# Altium schematic symbol library RK3568_train.SCHLIB: 159 symbols (part 1 of 3)
Pins are listed as number, name and electrical type; pins without a type are passive.

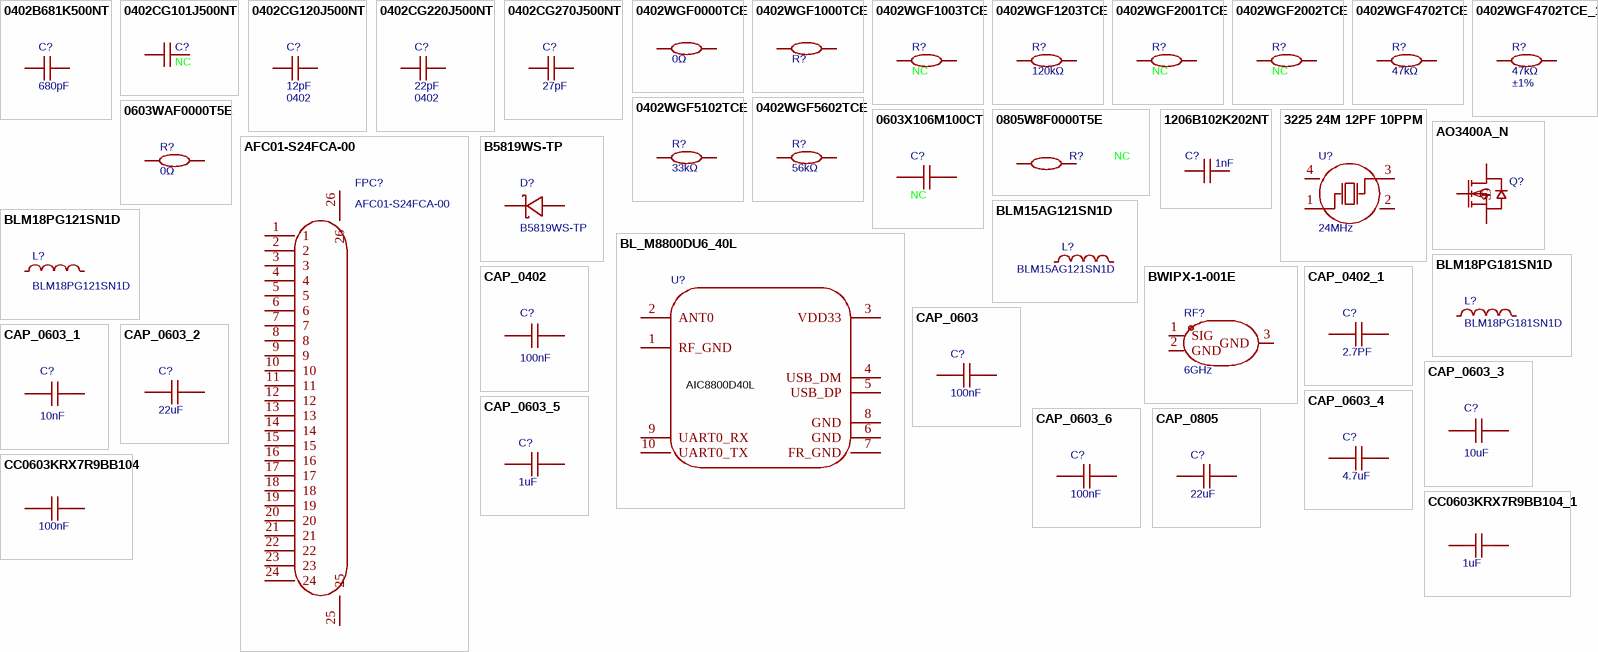
[diagram p0: symbols 0402B681K500NT to CC0603KRX7R9BB104_1]

## 0402B681K500NT
designator C?, comment 680pF
容值:680pF;精度:±10%;额定电压:50V;材质(温度系数):X7R;; Manufacturer: FH(风华); Device: 0402B681K500NT; AddInBom: yes; ModelId: 36a51122f27c49738f86b3bfa98863e0; ModelName: C0402_L1.0-W0.5-H0.5; ModelTransform: 39.37,19.685,0,0,0,0,0,0,0; Tolerance: ±10%; Voltage Rated: 50V; Temperature Coefficient: X7R; Symbol: 0402B681K500NT; LCSC Part Name: 680pF ±10% 50V; SupplierPart: C1541; ManufacturerPart: 0402B681K500NT; Supplier Footprint: 0402; JLCPCB Part Class: Extended Part; Datasheet: https://atta.szlcsc.com/upload/public/pdf/source/20170923/C1541_1506149263051988348.pdf; Supplier: LCSC; ConvertToPcb: yes; FootprintName: R0402; Value: 680pF
footprint R0402
pins: 1, 2

## 0402CG101J500NT
designator C?, comment NC
容值:100pF;精度:±5%;额定电压:50V;材质(温度系数):C0G;; Manufacturer: FH(风华); Device: 0402CG101J500NT; Add into BOM: no; ConvertToPcb: yes; ModelId: 36a51122f27c49738f86b3bfa98863e0; ModelName: C0402_L1.0-W0.5-H0.5; ModelTransform: 39.37,19.685,0,0,0,0,0,0,0; Tolerance: ±5%; Voltage Rated: 50V; Temperature Coefficient: C0G; Supplier Part: NC; Value: NC; Symbol: 0402CG101J500NT; LCSC Part Name: 100pF ±5% 50V; ManufacturerPart: 0402CG101J500NT; Supplier Footprint: 0402; JLCPCB Part Class: Basic Part; Datasheet: https://atta.szlcsc.com/upload/public/pdf/source/20170923/C1546_1506149265265988353.pdf; Supplier: LCSC; FootprintName: R0402
footprint R0402
pins: 1, 2

## 0402CG120J500NT
designator C?, comment 12pF  Supplier Footprint: 0402
容值:12pF;精度:±5%;额定电压:50V;材质(温度系数):C0G;; Manufacturer: FH(风华); Symbol: 0402CG220J500NT; Device: 0402CG120J500NT; AddInBom: yes; ModelId: 36a51122f27c49738f86b3bfa98863e0; ModelName: C0402_L1.0-W0.5-H0.5; ModelTransform: 39.37,19.685,0,0,0,0,0,0,0; Tolerance: ±5%; Voltage Rated: 50V; Temperature Coefficient: C0G; Datasheet: https://atta.szlcsc.com/upload/public/pdf/source/20200305/C486355_26A10D38EF8C2A5C37091D0039909270.pdf; LCSC Part Name: 12pF ±5% 50V; SupplierPart: C1547; ManufacturerPart: 0402CG120J500NT; JLCPCB Part Class: Basic Part; Supplier: LCSC; ConvertToPcb: yes; FootprintName: MYC0402; Value: 12pF
footprint MYC0402
pins: 1, 2

## 0402CG220J500NT
designator C?, comment 22pF  Supplier Footprint: 0402
容值:22pF;精度:±5%;额定电压:50V;材质(温度系数):C0G;; Manufacturer: FH(风华); Device: 0402CG220J500NT; AddInBom: yes; ModelId: 36a51122f27c49738f86b3bfa98863e0; ModelName: C0402_L1.0-W0.5-H0.5; ModelTransform: 39.37,19.685,0,0,0,0,0,0,0; Tolerance: ±5%; Voltage Rated: 50V; Temperature Coefficient: C0G; Symbol: 0402CG220J500NT; LCSC Part Name: 22pF ±5% 50V; SupplierPart: C1555; ManufacturerPart: 0402CG220J500NT; JLCPCB Part Class: Basic Part; Datasheet: https://atta.szlcsc.com/upload/public/pdf/source/20170923/C1555_1506149269156988362.pdf; Supplier: LCSC; ConvertToPcb: yes; FootprintName: R0402; Value: 22pF
footprint R0402
pins: 1, 2

## 0402CG270J500NT
designator C?, comment 27pF
容值:27pF;精度:±5%;额定电压:50V;材质(温度系数):C0G;; Manufacturer: FH(风华); Device: 0402CG270J500NT; Symbol: 0402CG270J500NTN; AddInBom: yes; ModelId: 36a51122f27c49738f86b3bfa98863e0; ModelName: C0402_L1.0-W0.5-H0.5; ModelTransform: 39.37,19.685,0,0,0,0,0,0,0; Tolerance: ±5%; Voltage Rated: 50V; Temperature Coefficient: C0G; LCSC Part Name: 27pF ±5% 50V; SupplierPart: C1557; ManufacturerPart: 0402CG270J500NT; Supplier Footprint: 0402; JLCPCB Part Class: Basic Part; Datasheet: https://atta.szlcsc.com/upload/public/pdf/source/20170923/C1557_1506149270123988364.pdf; Supplier: LCSC; ConvertToPcb: yes; FootprintName: R0402; Value: 27pF
footprint R0402
pins: 1, 2

## 0402WGF0000TCE
designator R?  value 0Ω  (hidden comment: 0402WGF0000TCE)
电阻类型:厚膜电阻;阻值:0Ω;精度:±1%;功率:62.5mW;; Manufacturer: UNI-ROYAL(厚声); Symbol: 电阻; AddInBom: yes; ModelId: 671aefced39d4c318694bba8bd8efd39; ModelName: R0402_L1.0-W0.5-H0.5; ModelTransform: 39.37,19.685,0,0,0,0,0,0.0005,0; Tolerance: ±1%; Power(Watts): 62.5mW; Temperature Coefficient: ±800ppm/℃; Overload Voltage (Max): 50V; Device: 0402WGF0000TCE; LCSC Part Name: 0Ω ±1% 62.5mW; SupplierPart: C17168; ManufacturerPart: 0402WGF0000TCE; Supplier Footprint: 0402; JLCPCB Part Class: Basic Part; Datasheet: https://atta.szlcsc.com/upload/public/pdf/source/20200306/C422600_1E6D84923E4A46A82E41ADD87F860B5C.pdf; Supplier: LCSC; ConvertToPcb: yes; FootprintName: r0402-nsk; Type: 厚膜电阻; Operating Temperature Range: -55℃~+155℃
footprint r0402-nsk
pins: 1, 2

## 0402WGF1000TCE
designator R?  (value not drawn)
Manufacturer: UNI-ROYAL(厚声); ConvertToPcb: yes; ModelId: 671aefced39d4c318694bba8bd8efd39; ModelName: R0402_L1.0-W0.5-H0.5; ModelTransform: 39.37,19.685,0,0,0,0,0,0.0005,0; LCSC Part Name: 100Ω(1000) ±1% 编带; Device: 0402WGF1000TCE; Symbol: 0402WGF1000TCE; AddInBom: yes; Supplier: LCSC; SupplierPart: C25076; Supplier Footprint: 0402; JLCPCB Part Class: Basic Part; Datasheet: https://atta.szlcsc.com/upload/public/pdf/source/20170920/C25076_1505901197574982707.pdf; ManufacturerPart: 0402WGF1000TCE; FootprintName: R0402
footprint R0402
pins: 1, 2

## 0402WGF1003TCE
designator R?, comment NC
电阻类型:厚膜电阻;阻值:100kΩ;精度:±1%;功率:62.5mW;温度系数:±100ppm/℃;最大工作电压:50V;工作温度范围:-55℃~+155℃;; Manufacturer: UNI-ROYAL(厚声); Device: 0402WGF1003TCE; Add into BOM: no; ConvertToPcb: yes; ModelId: 671aefced39d4c318694bba8bd8efd39; ModelName: R0402_L1.0-W0.5-H0.5; ModelTransform: 39.37,19.685,0,0,0,0,0,0.0005,0; Tolerance: ±1%; Power(Watts): 62.5mW; Overload Voltage (Max): 50V; Supplier Part: NC; Value: NC; Symbol: 0402WGF1003TCE; LCSC Part Name: 100kΩ ±1% 62.5mW; ManufacturerPart: 0402WGF1003TCE; Supplier Footprint: 0402; JLCPCB Part Class: Basic Part; Datasheet: https://atta.szlcsc.com/upload/public/pdf/source/20200306/C422600_1E6D84923E4A46A82E41ADD87F860B5C.pdf; Supplier: LCSC; FootprintName: R0402; Type: 厚膜电阻; Temperature Coefficient: ±100ppm/℃; Operating Temperature Range: -55℃~+155℃
footprint R0402
pins: 1, 2

## 0402WGF1203TCE
designator R?, comment 120kΩ
电阻类型:厚膜电阻;阻值:120kΩ;精度:±1%;功率:62.5mW;温度系数:±100ppm/℃;最大工作电压:50V;工作温度范围:-55℃~+155℃;; Manufacturer: UNI-ROYAL(厚声); Device: 0402WGF1203TCE; AddInBom: yes; ModelId: 671aefced39d4c318694bba8bd8efd39; ModelName: R0402_L1.0-W0.5-H0.5; ModelTransform: 39.37,19.685,0,0,0,0,0,0.0005,0; Tolerance: ±1%; Power(Watts): 62.5mW; Overload Voltage (Max): 50V; Symbol: 0402WGF1203TCE; LCSC Part Name: 120kΩ ±1% 62.5mW; SupplierPart: C25750; ManufacturerPart: 0402WGF1203TCE; Supplier Footprint: 0402; JLCPCB Part Class: Basic Part; Datasheet: https://atta.szlcsc.com/upload/public/pdf/source/20200306/C422600_1E6D84923E4A46A82E41ADD87F860B5C.pdf; Supplier: LCSC; ConvertToPcb: yes; FootprintName: R0402; Type: 厚膜电阻; Value: 120kΩ; Temperature Coefficient: ±100ppm/℃; Operating Temperature Range: -55℃~+155℃
footprint R0402
pins: 1, 2

## 0402WGF2001TCE
designator R?, comment NC
电阻类型:厚膜电阻;阻值:2kΩ;精度:±1%;功率:62.5mW;温度系数:±100ppm/℃;最大工作电压:50V;工作温度范围:-55℃~+155℃;; Manufacturer: UNI-ROYAL(厚声); Device: 0402WGF2001TCE; Add into BOM: no; ConvertToPcb: yes; ModelId: 671aefced39d4c318694bba8bd8efd39; ModelName: R0402_L1.0-W0.5-H0.5; ModelTransform: 39.37,19.685,0,0,0,0,0,0.0005,0; Tolerance: ±1%; Power(Watts): 62.5mW; Overload Voltage (Max): 50V; Supplier Part: NC; Value: NC; Symbol: 0402WGF2001TCE; LCSC Part Name: 2kΩ ±1% 62.5mW; ManufacturerPart: 0402WGF2001TCE; Supplier Footprint: 0402; JLCPCB Part Class: Basic Part; Datasheet: https://atta.szlcsc.com/upload/public/pdf/source/20200306/C422600_1E6D84923E4A46A82E41ADD87F860B5C.pdf; Supplier: LCSC; FootprintName: R0402; Type: 厚膜电阻; Temperature Coefficient: ±100ppm/℃; Operating Temperature Range: -55℃~+155℃
footprint R0402
pins: 1, 2

## 0402WGF2002TCE
designator R?, comment NC
电阻类型:厚膜电阻;阻值:20kΩ;精度:±1%;功率:62.5mW;温度系数:±100ppm/℃;最大工作电压:50V;工作温度范围:-55℃~+155℃;; Manufacturer: UNI-ROYAL(厚声); Device: 0402WGF2002TCE; Add into BOM: no; ConvertToPcb: yes; ModelId: 671aefced39d4c318694bba8bd8efd39; ModelName: R0402_L1.0-W0.5-H0.5; ModelTransform: 39.37,19.685,0,0,0,0,0,0.0005,0; Tolerance: ±1%; Power(Watts): 62.5mW; Overload Voltage (Max): 50V; Supplier Part: NC; Value: NC; Symbol: 0402WGF2002TCE; LCSC Part Name: 20kΩ ±1% 62.5mW; ManufacturerPart: 0402WGF2002TCE; Supplier Footprint: 0402; JLCPCB Part Class: Basic Part; Datasheet: https://atta.szlcsc.com/upload/public/pdf/source/20200306/C422600_1E6D84923E4A46A82E41ADD87F860B5C.pdf; Supplier: LCSC; FootprintName: R0402; Type: 厚膜电阻; Temperature Coefficient: ±100ppm/℃; Operating Temperature Range: -55℃~+155℃
footprint R0402
pins: 1, 2

## 0402WGF4702TCE
designator R?, comment 47kΩ
电阻类型:厚膜电阻;阻值:47kΩ;精度:±1%;功率:62.5mW;; Manufacturer: UNI-ROYAL(厚声); Symbol: 0402WGF1003TCE; Device: 0402WGF4702TCE; AddInBom: yes; ModelId: 671aefced39d4c318694bba8bd8efd39; ModelName: R0402_L1.0-W0.5-H0.5; ModelTransform: 39.37,19.685,0,0,0,0,0,0.0005,0; Tolerance: ±1%; Power(Watts): 62.5mW; Temperature Coefficient: ±100ppm/℃; Overload Voltage (Max): 50V; LCSC Part Name: 47kΩ ±1% 62.5mW; SupplierPart: C25792; ManufacturerPart: 0402WGF4702TCE; Supplier Footprint: 0402; JLCPCB Part Class: Basic Part; Datasheet: https://atta.szlcsc.com/upload/public/pdf/source/20200306/C422600_1E6D84923E4A46A82E41ADD87F860B5C.pdf; Supplier: LCSC; ConvertToPcb: yes; FootprintName: R0402; Type: 厚膜电阻; Value: 47kΩ; Operating Temperature Range: -55℃~+155℃
footprint R0402
pins: 1, 2

## 0402WGF4702TCE_1
designator R?, comment 47kΩ  Tolerance: ±1%
电阻类型:厚膜电阻;阻值:47kΩ;精度:±1%;功率:62.5mW;温度系数:±100ppm/℃;最大工作电压:50V;工作温度范围:-55℃~+155℃;; Manufacturer: UNI-ROYAL(厚声); Device: 0402WGF4702TCE; AddInBom: yes; ModelId: 671aefced39d4c318694bba8bd8efd39; ModelName: R0402_L1.0-W0.5-H0.5; ModelTransform: 39.37,19.685,0,0,0,0,0,0.0005,0; Power(Watts): 62.5mW; Overload Voltage (Max): 50V; Symbol: 0402WGF4702TCE; LCSC Part Name: 47kΩ ±1% 62.5mW; SupplierPart: C25792; ManufacturerPart: 0402WGF4702TCE; Supplier Footprint: 0402; JLCPCB Part Class: Basic Part; Datasheet: https://atta.szlcsc.com/upload/public/pdf/source/20200306/C422600_1E6D84923E4A46A82E41ADD87F860B5C.pdf; Supplier: LCSC; ConvertToPcb: yes; FootprintName: R0402; Type: 厚膜电阻; Value: 47kΩ; Temperature Coefficient: ±100ppm/℃; Operating Temperature Range: -55℃~+155℃
footprint R0402
pins: 1, 2

## 0402WGF5102TCE
designator R?, comment 33kΩ
电阻类型:厚膜电阻;阻值:51kΩ;精度:±1%;功率:62.5mW;; Manufacturer: UNI-ROYAL(厚声); Tolerance: ±1%; Power(Watts): 62.5mW; Temperature Coefficient: ±100ppm/℃; Overload Voltage (Max): 50V; Symbol: RTT025002FTH; Device: 0402WGF5102TCE; AddInBom: yes; ModelId: 671aefced39d4c318694bba8bd8efd39; ModelName: R0402_L1.0-W0.5-H0.5; ModelTransform: 39.37,19.685,0,0,0,0,0,0.0005,0; LCSC Part Name: 51kΩ ±1% 62.5mW; Datasheet: https://atta.szlcsc.com/upload/public/pdf/source/20200306/C422600_1E6D84923E4A46A82E41ADD87F860B5C.pdf; Type: 厚膜电阻; Value: 33kΩ; Operating Temperature Range: -55℃~+155℃; ManufacturerPart: 0402WGF5102TCE; Supplier Footprint: 0402; JLCPCB Part Class: Basic Part; Supplier: LCSC; ConvertToPcb: yes; FootprintName: R0402
footprint R0402
pins: 1, 2

## 0402WGF5602TCE
designator R?, comment 56kΩ
精度:±1%;功率:1/16W;温度系数:±100ppm/℃;阻值:56kΩ;最大工作电压:50V;工作温度范围:-55℃~+155℃;; Manufacturer: UNI-ROYAL(厚声); Device: 0402WGF5602TCE; AddInBom: yes; ModelId: 671aefced39d4c318694bba8bd8efd39; ModelName: R0402_L1.0-W0.5-H0.5; ModelTransform: 39.37,19.685,0,0,0,0,0,0.0005,0; Tolerance: ±1%; Power(Watts): 1/16W; Overload Voltage (Max): 50V; Symbol: 0402WGF5602TCE; LCSC Part Name: 56KΩ ±1%; SupplierPart: C25796; ManufacturerPart: 0402WGF5602TCE; Supplier Footprint: 0402; JLCPCB Part Class: Basic Part; Datasheet: https://atta.szlcsc.com/upload/public/pdf/source/20170920/C25796_1505901547482983369.pdf; Supplier: LCSC; ConvertToPcb: yes; FootprintName: R0402; Temperature Coefficient: ±100ppm/℃; Value: 56kΩ; Operating Temperature Range: -55℃~+155℃
footprint R0402
pins: 1, 2

## 0603WAF0000T5E
designator R?, comment 0Ω
电阻类型:厚膜电阻;阻值:0Ω;精度:±1%;功率:100mW;最大工作电压:75V;工作温度范围:-55℃~+155℃;; Manufacturer: UNI-ROYAL(厚声); Device: 0603WAF0000T5E; AddInBom: yes; ModelId: 6bd5cd867e9542ebae21caaf5d2d4c4d; ModelName: R0603; ModelTransform: 31.8897,63.7794,0,90,0,0,0,0,0; Tolerance: ±1%; Power(Watts): 100mW; Overload Voltage (Max): 75V; Symbol: 0603WAF0000T5E; LCSC Part Name: 0Ω ±1% 100mW; SupplierPart: C21189; ManufacturerPart: 0603WAF0000T5E; Supplier Footprint: 0603; JLCPCB Part Class: Basic Part; Datasheet: https://atta.szlcsc.com/upload/public/pdf/source/20200306/C422600_1E6D84923E4A46A82E41ADD87F860B5C.pdf; Supplier: LCSC; ConvertToPcb: yes; FootprintName: R0603; Type: 厚膜电阻; Value: 0Ω; Operating Temperature Range: -55℃~+155℃
footprint R0603
pins: 1, 2

## 0603X106M100CT
designator C?, comment NC
容值:10uF;精度:±20%;额定电压:10V;材质(温度系数):X5R;; Manufacturer: Walsin(华新科); Device: 0603X106M100CT; Add into BOM: no; Symbol: 0603X106M100; ConvertToPcb: yes; ModelId: ac125912035d415993ca9572d50418b1; ModelName: C0603_L1.6-W0.8-H0.8; ModelTransform: 62.992,31.496,0,0,0,0,0,0,0; Tolerance: ±20%; Voltage Rated: 10V; Temperature Coefficient: X5R; Supplier Part: NC; Value: NC; LCSC Part Name: 10uF ±20% 10V; ManufacturerPart: 0603X106M100CT; Supplier Footprint: 0603; JLCPCB Part Class: 扩展库; Datasheet: https://atta.szlcsc.com/upload/public/pdf/source/20161226/1482720147964.pdf; Supplier: LCSC; FootprintName: R0603
footprint R0603
pins: 1, 2

## 0805W8F0000T5E
designator R?, comment NC
电阻类型:厚膜电阻;阻值:0Ω;精度:±1%;功率:125mW;温度系数:±800ppm/℃;最大工作电压:150V;工作温度范围:-55℃~+155℃;; Manufacturer: UNI-ROYAL(厚声); Device: 0805W8F0000T5E; AddInBom: yes; ModelId: 37a81e68749a4138bd2dfa6897b24b85; ModelName: R0805_L2.0-W1.3-H0.6; ModelTransform: 78.74,51.181,0,0,0,0,0,-0.0005,0; Tolerance: ±1%; Power(Watts): 125mW; Overload Voltage (Max): 150V; Supplier Part: NC; Value: NC; Symbol: 0805W8F0000T5E; LCSC Part Name: 0Ω ±1% 125mW; ManufacturerPart: 0805W8F0000T5E; Supplier Footprint: 0805; JLCPCB Part Class: Basic Part; Datasheet: https://atta.szlcsc.com/upload/public/pdf/source/20200306/C422600_1E6D84923E4A46A82E41ADD87F860B5C.pdf; Supplier: LCSC; ConvertToPcb: yes; FootprintName: R0805; Type: 厚膜电阻; Temperature Coefficient: ±800ppm/℃; Operating Temperature Range: -55℃~+155℃
footprint R0805
pins: 1, 2

## 1206B102K202NT
designator C?, comment 1nF
容值:1nF;精度:±10%;额定电压:2kV;温度系数:X7R;; Manufacturer: FH(风华); Symbol: 1206B102K202NT; AddInBom: yes; ModelId: e4be705b945545a48e666415e3682bd8; ModelName: C1206_L3.2-W1.6-H1.3; ModelTransform: 125.984,62.992,0,0,0,0,0,0,0; Tolerance: ±10%; Voltage Rating: 2kV; Temperature Coefficient: X7R; Device: 1206B102K202NT; LCSC Part Name: 1nF ±10% 2kV; SupplierPart: C9196; ManufacturerPart: 1206B102K202NT; Supplier Footprint: 1206; JLCPCB Part Class: 基础库; Datasheet: https://atta.szlcsc.com/upload/public/pdf/source/20200305/C486355_26A10D38EF8C2A5C37091D0039909270.pdf; Supplier: LCSC; ConvertToPcb: yes; FootprintName: C1206; Value: 1nF
footprint C1206
pins: 1, 2

## 3225 24M 12PF 10PPM
designator U?, comment 24MHz
频率:24MHz;常温频差:±10ppm;外接负载电容:12pF;频率稳定度(全温):±30ppm;; Manufacturer: SST(索斯特); Symbol: 3225 24M 12PF 10PPM; AddInBom: yes; ModelId: 1840cb1b89674ca18acb69eedbab271b; ModelName: OSC-SMD_4P-L3.2-W2.5-H1.0; ModelTransform: 125.984,98.425,0,0,0,0,0,0,0; Normal temperature Frequency Tolerance: ±10ppm; External load capacitor: 12pF; Frequency Stability(Full temperature range): ±30ppm; Device: 3225 24M 12PF 10PPM; LCSC Part Name: 24MHz ±10ppm 12pF; SupplierPart: C5181479; ManufacturerPart: 3225 24M 12PF 10PPM; Supplier Footprint: SMD3225-4P; JLCPCB Part Class: 扩展库; Datasheet: https://atta.szlcsc.com/upload/public/pdf/source/20220927/6DE882D78314C64B49594C58A0BA2E52.pdf; Supplier: LCSC; ConvertToPcb: yes; FootprintName: CRYSTAL-SMD_4P-L3.2-W2.5-BL; Value: 24MHz; Operating Temperature: -20℃~+70℃
footprint CRYSTAL-SMD_4P-L3.2-W2.5-BL
pins: 1 OSC1, 2 GND, 3 OSC2, 4 GND

## AFC01-S24FCA-00
designator FPC?
锁定特性:翻盖式;触点类型:下接;触点数量:24P;间距:0.5mm;安装方式:卧贴;; Manufacturer: JS(钜硕电子); AddInBom: yes; ModelId: f4bf300ddc81445bb004d4c904d70ad0; ModelName: FPC-SMD_24P-P0.50_AFC01-S24FCA-00; ModelTransform: 645.668,240.157,0,0,0,0,0,-52.441,0; Locking Feature: 翻盖式; Number of Contacts: 24P; Pitch: 0.5mm; FFC, FCB Thickness: 0.3mm; Symbol: AFC01-S24FCA-00; Device: AFC01-S24FCA-00; LCSC Part Name: 间距:0.5mm P数:24P 翻盖式 下接; SupplierPart: C262669; ManufacturerPart: AFC01-S24FCA-00; Supplier Footprint: SMD,P=0.5mm,卧贴; JLCPCB Part Class: 扩展库; Datasheet: https://item.szlcsc.com/datasheet/AFC01-S24FCA-00/253928.html; Supplier: LCSC; ConvertToPcb: yes; FootprintName: FPC-SMD_24P-P0.50_AFC01-S24FCA-00; Contact Type: 下接; Mounting Type: 卧贴; Height Above Board: 2mm
footprint FPC-SMD_24P-P0.50_AFC01-S24FCA-00
pins: 1, 2, 3, 4, 5, 6, 7, 8, 9, 10, 11, 12, 13, 14, 15, 16, 17, 18, 19, 20, 21, 22, 23, 24, 25, 26

## AO3400A_N
designator Q?
类型:N沟道;漏源电压(Vdss):30V;连续漏极电流(Id):5.2A;功率(Pd):1W;导通电阻(RDS(on)@Vgs,Id):35mΩ@10V,5A;阈值电压(Vgs(th)@Id):1.5V@250μA;; Symbol: N_MOS; Device: AO3400A_N; AddInBom: yes; ModelId: c62791f0466c4ae2a892c056b845b0ca; ModelName: SOT-23-3P_L2.9-W1.3-H1.0-LS2.4-P0.95; ModelTransform: 98.425,114.173,0,180,0,0,0.0005,-0.0005,0; Supplier Footprint: SOT-23; ConvertToPcb: yes; FootprintName: SOT-23-3_L2.9-W1.3-P1.90-LS2.4-BR; SupplierPart: C700953
footprint SOT-23-3_L2.9-W1.3-P1.90-LS2.4-BR
pins: 1 G, 2 S, 3 D

## B5819WS-TP
designator D?
正向压降(Vf):600mV@1A;直流反向耐压(Vr):40V;平均整流电流(Io):1A;; Manufacturer: MCC(美微科); AddInBom: yes; ModelId: 7459fe65e23146c0a8d836e46a0add72; ModelName: SOD-323_L1.8-W1.3-LS2.5-RD; ModelTransform: 104.3305,51.181,0,0,0,0,0,0,0; Reverse Voltage (Vr): 40V; Average Rectified Current (Io): 1A; Reverse Leakage Current (Ir): 1mA@40V; Symbol: B5819WS-TP; Device: B5819WS-TP; LCSC Part Name: 电压:40V 电流:1A; SupplierPart: C78734; ManufacturerPart: B5819WS-TP; Supplier Footprint: SOD-323; JLCPCB Part Class: 扩展库; Datasheet: https://atta.szlcsc.com/upload/public/pdf/source/20190308/C78734_7BD7F562D63F05C7B4187010ADA330AA.pdf; Supplier: LCSC; ConvertToPcb: yes; FootprintName: SOD-323_L1.8-W1.3-LS2.5-RD; Forward Voltage (Vf@If): 600mV@1A
footprint SOD-323_L1.8-W1.3-LS2.5-RD
pins: 1 K, 2 A

## BL_M8800DU6_40L
designator U?
AIC8800D40L双频5G无线模块wifi6+BLE蓝牙配网IPC摄像头投屏图传; Device: BL_M8800DU6_40L; AddInBom: yes; ConvertToPcb: yes; SymbolName: BL_M8800DU6_40L; FootprintName: BL_M8800DU6_40L
footprint BL_M8800DU6_40L
pins: 1 RF_GND, 2 ANT0, 3 VDD33, 4 USB_DM, 5 USB_DP, 6 GND, 7 FR_GND, 8 GND, 9 UART0_RX, 10 UART0_TX
text: AIC8800D40L

## BLM15AG121SN1D
designator L?
标称阻抗@测试频率:120Ω@100MHz;误差:±25%;直流电阻(RDC):250mΩ;额定电流:500mA;电路数:1;; Manufacturer: muRata(村田); Symbol: CBM160808U121T; AddInBom: yes; ModelId: d8d36575a3234d4790bfa765c88664a7; ModelName: L0402_L1.0-W0.5-H0.5_BEAD; ModelTransform: 39.37,19.685,0,0,0,0,0,0.0005,0; Tolerance: ±25%; DC Resistance: 250mΩ; Current Rating: 500mA; Circuits: 1; Device: BLM15AG121SN1D; LCSC Part Name: 120Ω@100MHz ±25%; SupplierPart: C85812; ManufacturerPart: BLM15AG121SN1D; Supplier Footprint: 0402; JLCPCB Part Class: Extended Part; Datasheet: https://atta.szlcsc.com/upload/public/pdf/source/20180326/C85812_709B7ABD18A92BCC8FFBD7A231EEE264.pdf; Supplier: LCSC; ConvertToPcb: yes; FootprintName: L0402; Impedance @ Frequency: 120Ω@100MHz
footprint L0402
pins: 1, 2

## BLM18PG121SN1D
designator L?
标称阻抗@测试频率:120Ω@100MHz;误差:±25%;直流电阻(RDC):50mΩ;; Manufacturer: muRata(村田); Symbol: BLM18PG121SN1D_C14709; AddInBom: yes; ModelId: 2bc5ec593d464d6ba9807aec0b5673c2; ModelName: L0603_L1.6-W0.8-H0.5_BEAD; ModelTransform: 62.992,31.496,0,180,0,0,0.094,0.629,0; Tolerance: ±25%; DC Resistance: 50mΩ; Current Rating: 2A; Circuits: 1; Device: BLM18PG121SN1D; LCSC Part Name: 单路 0603磁珠 阻抗120Ω@100MHz; SupplierPart: C14709; ManufacturerPart: BLM18PG121SN1D; Supplier Footprint: 0603; JLCPCB Part Class: 基础库; Datasheet: https://atta.szlcsc.com/upload/public/pdf/source/20130704/1457706621422.pdf; Supplier: LCSC; ConvertToPcb: yes; FootprintName: L0603; Impedance @ Frequency: 120Ω@100MHz
footprint L0603
pins: 1, 2

## BLM18PG181SN1D
designator L?
标称阻抗@测试频率:180Ω@100MHz;误差:±25%;直流电阻(RDC):90mΩ;额定电流:1.5A;电路数:1;; Manufacturer: muRata(村田); AddInBom: yes; ModelId: 2bc5ec593d464d6ba9807aec0b5673c2; ModelName: L0603_L1.6-W0.8-H0.5_BEAD; ModelTransform: 62.992,31.496,0,180,0,0,0.094,0.629,0; Tolerance: ±25%; DC Resistance: 90mΩ; Current Rating: 1.5A; Circuits: 1; Device: BLM18PG181SN1D; Symbol: BLM18PG181SN1D; LCSC Part Name: 180Ω@100MHz ±25%; SupplierPart: C82850; ManufacturerPart: BLM18PG181SN1D; Supplier Footprint: 0603; JLCPCB Part Class: Extended Part; Datasheet: https://atta.szlcsc.com/upload/public/pdf/source/20180326/C82850_BC876320DC99E3923AFD377E2F9C4AED.pdf; Supplier: LCSC; ConvertToPcb: yes; FootprintName: L0603; Impedance @ Frequency: 180Ω@100MHz
footprint L0603
pins: 1, 2

## BWIPX-1-001E
designator RF?, comment 6GHz
连接器类型:板端;接口类型:内针;端口数量:1;接口直径:-;接口长度/高度:-;频率:6GHz;射频系列:IPEX;阻抗:50Ω;样式:-;工作温度:-;; Manufacturer: BAT WIRELESS(蝙蝠无线); Symbol: BWIPX-1-001E; AddInBom: yes; ModelId: e9910d1cc3f644ef905f39c3184653d7; ModelName: IPEX-SMD_BWIPX-1-001E; ModelTransform: 122.047,118.11,0,180,0,0,29.921,0,0; Connector Type: 板端; Interface: 内针; Number of Ports: 1; RF Series: IPEX; Impedance: 50Ω; Device: BWIPX-1-001E; LCSC Part Name: IPEX 内针; SupplierPart: C496552; ManufacturerPart: BWIPX-1-001E; Supplier Footprint: SMD; JLCPCB Part Class: 扩展库; Datasheet: https://item.szlcsc.com/datasheet/BWIPX-1-001E/508501.html; Supplier: LCSC; ConvertToPcb: yes; FootprintName: IPEX-SMD_BWIPX-1-001E; Interface Diameter: -; Interface Length/Height: -; Value: 6GHz; Style: -; Operating Temperature Range: -
footprint IPEX-SMD_BWIPX-1-001E
pins: 1 SIG, 2 GND, 3 GND

## CAP_0402
designator C?, comment 100nF
Device: CAP_0402; Symbol: CapAcitance; ConvertToPcb: yes; ModelId: 36a51122f27c49738f86b3bfa98863e0; ModelName: C0402_L1.0-W0.5-H0.5; ModelTransform: 39.37,19.685,0,0,0,0,0,0,0; AddInBom: yes; Supplier Footprint: 0402; FootprintName: MYC0402; Value: 100nF
footprint MYC0402
pins: 1, 2

## CAP_0402_1
designator C?, comment 2.7PF
Symbol: Capacitance; Device: CAP_0402; ConvertToPcb: yes; ModelId: 36a51122f27c49738f86b3bfa98863e0; ModelName: C0402_L1.0-W0.5-H0.5; ModelTransform: 39.37,19.685,0,0,0,0,0,0,0; Value: 2.7PF; AddInBom: yes; Supplier Footprint: 0402; FootprintName: MYC0402
footprint MYC0402
pins: 1, 2

## CAP_0603
designator C?, comment 100nF
Device: CAP_0603; ConvertToPcb: yes; SymbolName: Capacitance; ModelId: ac125912035d415993ca9572d50418b1; ModelName: C0603_L1.6-W0.8-H0.8; ModelTransform: 62.992,31.496,0,0,0,0,0,0,0; AddInBom: yes; Supplier Footprint: 0603; FootprintName: C0603; Value: 100nF
footprint C0603
pins: 1, 2

## CAP_0603_1
designator C?, comment 10nF
Symbol: CapAcitance; Device: CAP_0603; ConvertToPcb: yes; ModelId: ac125912035d415993ca9572d50418b1; ModelName: C0603_L1.6-W0.8-H0.8; ModelTransform: 62.992,31.496,0,0,0,0,0,0,0; Value: 10nF; AddInBom: yes; Supplier Footprint: 0603; FootprintName: C0603
footprint C0603
pins: 1, 2

## CAP_0603_2
designator C?, comment 22uF
Symbol: Capacitance; Device: CAP_0603; ConvertToPcb: yes; ModelId: ac125912035d415993ca9572d50418b1聨0819f05c4eef4c71ace90d822a990e87; ModelName: C0603_L1.6-W0.8-H0.8; ModelTransform: 62.992,31.496,0,0,0,0,0,0,0; Value: 22uF; AddInBom: yes; Supplier Footprint: 0603; FootprintName: C0603
footprint C0603
pins: 1, 2

## CAP_0603_3
designator C?, comment 10uF
Symbol: Capacitance; Device: CAP_0603; ConvertToPcb: yes; ModelId: ac125912035d415993ca9572d50418b1聨0819f05c4eef4c71ace90d822a990e87; ModelName: C0603_L1.6-W0.8-H0.8; ModelTransform: 62.992,31.496,0,0,0,0,0,0,0; Value: 10uF; AddInBom: yes; Supplier Footprint: 0603; FootprintName: C0603
footprint C0603
pins: 1, 2

## CAP_0603_4
designator C?, comment 4.7uF
Device: CAP_0603; ConvertToPcb: yes; SymbolName: Capacitance; ModelId: ac125912035d415993ca9572d50418b1; ModelName: C0603_L1.6-W0.8-H0.8; ModelTransform: 62.992,31.496,0,0,0,0,0,0,0; Value: 4.7uF; AddInBom: yes; Supplier Footprint: 0603; FootprintName: C0603
footprint C0603
pins: 1, 2

## CAP_0603_5
designator C?, comment 1uF
Device: CAP_0603; ConvertToPcb: yes; SymbolName: Capacitance; ModelId: ac125912035d415993ca9572d50418b1; ModelName: C0603_L1.6-W0.8-H0.8; ModelTransform: 62.992,31.496,0,0,0,0,0,0,0; Value: 1uF; AddInBom: yes; Supplier Footprint: 0603; FootprintName: C0603
footprint C0603
pins: 1, 2

## CAP_0603_6
designator C?, comment 100nF
Symbol: Capacitance; Device: CAP_0603; Value: 10uF; ConvertToPcb: yes; ModelId: ac125912035d415993ca9572d50418b1聨0819f05c4eef4c71ace90d822a990e87; ModelName: C0603_L1.6-W0.8-H0.8; ModelTransform: 62.992,31.496,0,0,0,0,0,0,0; AddInBom: yes; Supplier Footprint: 0603; FootprintName: C0603
footprint C0603
pins: 1, 2

## CAP_0805
designator C?, comment 22uF
Symbol: Capacitance; Device: CAP_0805; ConvertToPcb: yes; ModelId: 1ba041120af144c991958decab20d241聨0819f05c4eef4c71ace90d822a990e87; ModelName: C0805_L2.0-W1.3-H1.3; ModelTransform: 78.74,51.181,0,0,0,0,0,0.0005,0; Value: 22uF; AddInBom: yes; Supplier Footprint: 0805; FootprintName: C0805
footprint C0805
pins: 1, 2

## CC0603KRX7R9BB104
designator C?  value 100nF  (hidden comment: CC0603KRX7R9BB104)
容值:100nF;精度:±10%;额定电压:50V;材质(温度系数):X7R;; Manufacturer: YAGEO(国巨); Symbol: CapAcitance; AddInBom: yes; ModelId: ac125912035d415993ca9572d50418b1; ModelName: C0603_L1.6-W0.8-H0.8; ModelTransform: 62.992,31.496,0,0,0,0,0,0,0; Tolerance: ±10%; Voltage Rated: 50V; Temperature Coefficient: X7R; Device: CC0603KRX7R9BB104; LCSC Part Name: 100nF ±10% 50V; SupplierPart: C14663; ManufacturerPart: CC0603KRX7R9BB104; Supplier Footprint: 0603; JLCPCB Part Class: Basic Part; Datasheet: https://atta.szlcsc.com/upload/public/pdf/source/20180910/C282072_33301C7F631E79921B82A8DAC6BCC5B3.pdf; Supplier: LCSC; ConvertToPcb: yes; FootprintName: MYC0402
footprint MYC0402
pins: 1, 2

## CC0603KRX7R9BB104_1
designator C?, comment value 1uF  (hidden comment: CC0603KRX7R9BB104)
容值:100nF;精度:±10%;额定电压:50V;材质(温度系数):X7R;; Manufacturer: YAGEO(国巨); Symbol: CapAcitance; AddInBom: yes; ModelId: ac125912035d415993ca9572d50418b1; ModelName: C0603_L1.6-W0.8-H0.8; ModelTransform: 62.992,31.496,0,0,0,0,0,0,0; Tolerance: ±10%; Voltage Rated: 50V; Temperature Coefficient: X7R; Device: CC0603KRX7R9BB104; LCSC Part Name: 100nF ±10% 50V; ManufacturerPart: CC0603KRX7R9BB104; Supplier Footprint: 0603; JLCPCB Part Class: Basic Part; Datasheet: https://atta.szlcsc.com/upload/public/pdf/source/20180910/C282072_33301C7F631E79921B82A8DAC6BCC5B3.pdf; Supplier: LCSC; ConvertToPcb: yes; FootprintName: MYC0402
footprint MYC0402
pins: 1, 2

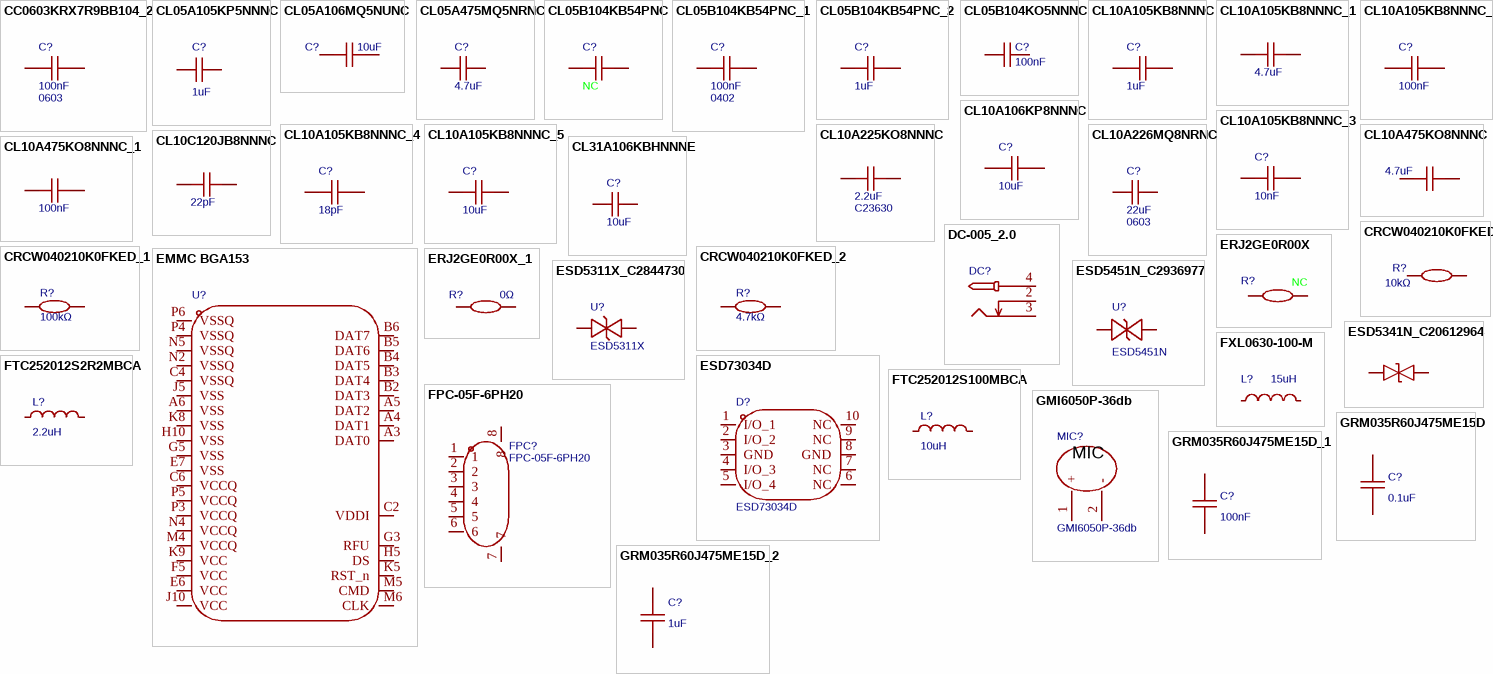
[diagram p1: symbols CC0603KRX7R9BB104_2 to GRM035R60J475ME15D_2]

## CC0603KRX7R9BB104_2
designator C?, comment 100nF  Supplier Footprint: 0603
容值:100nF;精度:±10%;额定电压:50V;材质(温度系数):X7R;; Manufacturer: YAGEO(国巨); Symbol: CC0603KRX7R9BB104; AddInBom: yes; ModelId: ac125912035d415993ca9572d50418b1; ModelName: C0603_L1.6-W0.8-H0.8; ModelTransform: 62.992,31.496,0,0,0,0,0,0,0; Tolerance: ±10%; Voltage Rated: 50V; Temperature Coefficient: X7R; Supplier Part: C14663; Device: CC0603KRX7R9BB104; LCSC Part Name: 100nF ±10% 50V; ManufacturerPart: CC0603KRX7R9BB104; JLCPCB Part Class: Basic Part; Datasheet: https://atta.szlcsc.com/upload/public/pdf/source/20180910/C282072_33301C7F631E79921B82A8DAC6BCC5B3.pdf; Supplier: LCSC; ConvertToPcb: yes; FootprintName: C0603; Value: 100nF
footprint C0603
pins: 1, 2

## CL05A105KP5NNNC
designator C?, comment 1uF
容值:1uF;精度:±10%;额定电压:10V;材质(温度系数):X5R;; Manufacturer: SAMSUNG(三星); Device: CL05A105KP5NNNC; AddInBom: yes; ModelId: 36a51122f27c49738f86b3bfa98863e0; ModelName: C0402_L1.0-W0.5-H0.5; ModelTransform: 39.37,19.685,0,0,0,0,0,0,0; Tolerance: ±10%; Voltage Rated: 10V; Temperature Coefficient: X5R; Symbol: CL05A105KP5NNNC; LCSC Part Name: 1uF ±10% 10V; SupplierPart: C14445; ManufacturerPart: CL05A105KP5NNNC; Supplier Footprint: 0402; JLCPCB Part Class: 扩展库; Datasheet: https://atta.szlcsc.com/upload/public/pdf/source/20160103/1457707670698.pdf; Supplier: LCSC; ConvertToPcb: yes; FootprintName: MYC0402; Value: 1uF
footprint MYC0402
pins: 1, 2

## CL05A106MQ5NUNC
designator C?, comment 10uF
容值:10uF;精度:±20%;额定电压:6.3V;材质(温度系数):X5R;; Manufacturer: SAMSUNG(三星); Symbol: 0603X106M100; Device: CL05A106MQ5NUNC; AddInBom: yes; ModelId: 36a51122f27c49738f86b3bfa98863e0; ModelName: C0402_L1.0-W0.5-H0.5; ModelTransform: 39.37,19.685,0,0,0,0,0,0,0; Tolerance: ±20%; Voltage Rated: 6.3V; Temperature Coefficient: X5R; JLCPCB Part Class: Basic Part; LCSC Part Name: 10uF ±20% 6.3V; SupplierPart: C15525; ManufacturerPart: CL05A106MQ5NUNC; Supplier Footprint: 0402; Datasheet: https://atta.szlcsc.com/upload/public/pdf/source/20220823/2B02EE04F8F211D38A52DCB16EB6BEBA.pdf; Supplier: LCSC; ConvertToPcb: yes; FootprintName: MYC0402; Value: 10uF
footprint MYC0402
pins: 1, 2

## CL05A475MQ5NRNC
designator C?, comment 4.7uF
容值:4.7uF;精度:±20%;额定电压:6.3V;材质(温度系数):X5R;; Manufacturer: SAMSUNG(三星); Symbol: CL10A475KO8NNNC; Device: CL05A475MQ5NRNC; AddInBom: yes; ModelId: 36a51122f27c49738f86b3bfa98863e0; ModelName: C0402_L1.0-W0.5-H0.5; ModelTransform: 39.37,19.685,0,0,0,0,0,0,0; Tolerance: ±20%; Voltage Rated: 6.3V; Temperature Coefficient: X5R; LCSC Part Name: 4.7uF ±20% 6.3V; SupplierPart: C307423; ManufacturerPart: CL05A475MQ5NRNC; Supplier Footprint: 0402; JLCPCB Part Class: Extended Part; Datasheet: https://atta.szlcsc.com/upload/public/pdf/source/20181010/C307423_0E0C4E35F3A09F81C2E5C84E00499E42.pdf; Supplier: LCSC; ConvertToPcb: yes; FootprintName: MYC0402; Value: 4.7uF
footprint MYC0402
pins: 1, 2

## CL05B104KB54PNC
designator C?, comment NC
容值:100nF;精度:±10%;额定电压:50V;材质(温度系数):X7R;; Manufacturer: SAMSUNG(三星); Symbol: CL05B104KB54PNC; Add into BOM: no; ConvertToPcb: yes; ModelId: 36a51122f27c49738f86b3bfa98863e0; ModelName: C0402_L1.0-W0.5-H0.5; ModelTransform: 39.37,19.685,0,0,0,0,0,0,0; Tolerance: ±10%; Voltage Rated: 50V; Temperature Coefficient: X7R; Supplier Part: NC; Value: NC; Device: CL05B104KB54PNC; LCSC Part Name: 100nF ±10% 50V; ManufacturerPart: CL05B104KB54PNC; Supplier Footprint: 0402; JLCPCB Part Class: Basic Part; Datasheet: https://atta.szlcsc.com/upload/public/pdf/source/20181009/C307331_222F7C870FD3EA5F46F538B483443886.pdf; Supplier: LCSC; FootprintName: R0402
footprint R0402
pins: 1, 2

## CL05B104KB54PNC_1
designator C?, comment 100nF  Supplier Footprint: 0402
容值:100nF;精度:±10%;额定电压:50V;材质(温度系数):X7R;; Manufacturer: SAMSUNG(三星); Symbol: CL05B104KB54PNC; AddInBom: yes; ModelId: 36a51122f27c49738f86b3bfa98863e0; ModelName: C0402_L1.0-W0.5-H0.5; ModelTransform: 39.37,19.685,0,0,0,0,0,0,0; Tolerance: ±10%; Voltage Rated: 50V; Temperature Coefficient: X7R; Device: CL05B104KB54PNC; LCSC Part Name: 100nF ±10% 50V; SupplierPart: C307331; ManufacturerPart: CL05B104KB54PNC; JLCPCB Part Class: Basic Part; Datasheet: https://atta.szlcsc.com/upload/public/pdf/source/20181009/C307331_222F7C870FD3EA5F46F538B483443886.pdf; Supplier: LCSC; ConvertToPcb: yes; FootprintName: MYC0402; Value: 100nF
footprint MYC0402
pins: 1, 2

## CL05B104KB54PNC_2
designator C?, comment value 1uF  (hidden comment: CL05B104KB54PNC)
容值:100nF;精度:±10%;额定电压:50V;材质(温度系数):X7R;; Manufacturer: SAMSUNG(三星); Symbol: CapAcitance; 3D Model: ac125912035d415993ca9572d50418b1; AddInBom: yes; ModelName: C0402_L1.0-W0.5-H0.5; ModelTransform: 39.37,19.685,0,0,0,0,0,0,0; Tolerance: ±10%; Voltage Rated: 50V; Temperature Coefficient: X7R; Device: CL05B104KB54PNC; LCSC Part Name: 100nF ±10% 50V; ManufacturerPart: CL05B104KB54PNC; Supplier Footprint: 0402; JLCPCB Part Class: Basic Part; Datasheet: https://atta.szlcsc.com/upload/public/pdf/source/20181009/C307331_222F7C870FD3EA5F46F538B483443886.pdf; Supplier: LCSC; ConvertToPcb: yes; FootprintName: MYC0402
footprint MYC0402
pins: 1, 2

## CL05B104KO5NNNC
designator C?, comment 100nF
容值:100nF;精度:±10%;额定电压:16V;材质(温度系数):X7R;; Manufacturer: SAMSUNG(三星); Device: CL05B104KO5NNNC; AddInBom: yes; ModelId: 36a51122f27c49738f86b3bfa98863e0; ModelName: C0402_L1.0-W0.5-H0.5; ModelTransform: 39.37,19.685,0,0,0,0,0,0,0; Tolerance: ±10%; Voltage Rated: 16V; Temperature Coefficient: X7R; Symbol: CL05B104KO5NNNC; LCSC Part Name: 100nF ±10% 16V; SupplierPart: C1525; ManufacturerPart: CL05B104KO5NNNC; Supplier Footprint: 0402; JLCPCB Part Class: 基础库; Datasheet: https://atta.szlcsc.com/upload/public/pdf/source/20160103/1457707674891.pdf; Supplier: LCSC; ConvertToPcb: yes; FootprintName: MYC0402; Value: 100nF
footprint MYC0402
pins: 1, 2

## CL10A105KB8NNNC
designator C?  value 1uF  (hidden comment: CL10A105KB8NNNC)
容值:1uF;精度:±10%;额定电压:50V;材质(温度系数):X5R;; Manufacturer: SAMSUNG(三星); Symbol: CapAcitance; AddInBom: yes; ModelId: ac125912035d415993ca9572d50418b1; ModelName: C0603_L1.6-W0.8-H0.8; ModelTransform: 62.992,31.496,0,0,0,0,0,0,0; Tolerance: ±10%; Voltage Rated: 50V; Temperature Coefficient: X5R; Device: CL10A105KB8NNNC; LCSC Part Name: 1uF ±10% 50V; SupplierPart: C15849; ManufacturerPart: CL10A105KB8NNNC; Supplier Footprint: 0603; JLCPCB Part Class: Basic Part; Datasheet: https://atta.szlcsc.com/upload/public/pdf/source/20160103/1457707679084.pdf; Supplier: LCSC; ConvertToPcb: yes; FootprintName: MYC0402
footprint MYC0402
pins: 1, 2

## CL10A105KB8NNNC_1
designator C?, comment value 4.7uF  (hidden comment: CL10A105KB8NNNC)
容值:1uF;精度:±10%;额定电压:50V;材质(温度系数):X5R;; Manufacturer: SAMSUNG(三星); Symbol: CapAcitance; 3D Model: 36a51122f27c49738f86b3bfa98863e0; AddInBom: yes; ModelName: C0603_L1.6-W0.8-H0.8; ModelTransform: 62.992,31.496,0,0,0,0,0,0,0; Tolerance: ±10%; Voltage Rated: 50V; Temperature Coefficient: X5R; Device: CL10A105KB8NNNC; LCSC Part Name: 1uF ±10% 50V; ManufacturerPart: CL10A105KB8NNNC; Supplier Footprint: 0603; JLCPCB Part Class: Basic Part; Datasheet: https://atta.szlcsc.com/upload/public/pdf/source/20160103/1457707679084.pdf; Supplier: LCSC; ConvertToPcb: yes; FootprintName: MYC0402
footprint MYC0402
pins: 1, 2

## CL10A105KB8NNNC_2
designator C?, comment value 100nF  (hidden comment: CL10A105KB8NNNC)
容值:1uF;精度:±10%;额定电压:50V;材质(温度系数):X5R;; Manufacturer: SAMSUNG(三星); Symbol: CapAcitance; AddInBom: yes; ModelId: ac125912035d415993ca9572d50418b1; ModelName: C0603_L1.6-W0.8-H0.8; ModelTransform: 62.992,31.496,0,0,0,0,0,0,0; Tolerance: ±10%; Voltage Rated: 50V; Temperature Coefficient: X5R; Device: CL10A105KB8NNNC; LCSC Part Name: 1uF ±10% 50V; ManufacturerPart: CL10A105KB8NNNC; Supplier Footprint: 0603; JLCPCB Part Class: Basic Part; Datasheet: https://atta.szlcsc.com/upload/public/pdf/source/20160103/1457707679084.pdf; Supplier: LCSC; ConvertToPcb: yes; FootprintName: MYC0402
footprint MYC0402
pins: 1, 2

## CL10A105KB8NNNC_3
designator C?, comment value 10nF  (hidden comment: CL10A105KB8NNNC)
容值:1uF;精度:±10%;额定电压:50V;材质(温度系数):X5R;; Manufacturer: SAMSUNG(三星); Symbol: CapAcitance; AddInBom: yes; ModelId: ac125912035d415993ca9572d50418b1; ModelName: C0603_L1.6-W0.8-H0.8; ModelTransform: 62.992,31.496,0,0,0,0,0,0,0; Tolerance: ±10%; Voltage Rated: 50V; Temperature Coefficient: X5R; Device: CL10A105KB8NNNC; LCSC Part Name: 1uF ±10% 50V; ManufacturerPart: CL10A105KB8NNNC; Supplier Footprint: 0603; JLCPCB Part Class: Basic Part; Datasheet: https://atta.szlcsc.com/upload/public/pdf/source/20160103/1457707679084.pdf; Supplier: LCSC; ConvertToPcb: yes; FootprintName: MYC0402
footprint MYC0402
pins: 1, 2

## CL10A105KB8NNNC_4
designator C?, comment value 18pF  (hidden comment: CL10A105KB8NNNC)
容值:1uF;精度:±10%;额定电压:50V;材质(温度系数):X5R;; Manufacturer: SAMSUNG(三星); Symbol: CapAcitance; AddInBom: yes; ModelId: ac125912035d415993ca9572d50418b1; ModelName: C0603_L1.6-W0.8-H0.8; ModelTransform: 62.992,31.496,0,0,0,0,0,0,0; Tolerance: ±10%; Voltage Rated: 50V; Temperature Coefficient: X5R; Device: CL10A105KB8NNNC; LCSC Part Name: 1uF ±10% 50V; ManufacturerPart: CL10A105KB8NNNC; Supplier Footprint: 0603; JLCPCB Part Class: Basic Part; Datasheet: https://atta.szlcsc.com/upload/public/pdf/source/20160103/1457707679084.pdf; Supplier: LCSC; ConvertToPcb: yes; FootprintName: MYC0402
footprint MYC0402
pins: 1, 2

## CL10A105KB8NNNC_5
designator C?, comment value 10uF  (hidden comment: CL10A105KB8NNNC)
容值:1uF;精度:±10%;额定电压:50V;材质(温度系数):X5R;; Manufacturer: SAMSUNG(三星); Symbol: CapAcitance; AddInBom: yes; ModelId: ac125912035d415993ca9572d50418b1; ModelName: C0603_L1.6-W0.8-H0.8; ModelTransform: 62.992,31.496,0,0,0,0,0,0,0; Tolerance: ±10%; Voltage Rated: 50V; Temperature Coefficient: X5R; Device: CL10A105KB8NNNC; LCSC Part Name: 1uF ±10% 50V; ManufacturerPart: CL10A105KB8NNNC; Supplier Footprint: 0603; JLCPCB Part Class: Basic Part; Datasheet: https://atta.szlcsc.com/upload/public/pdf/source/20160103/1457707679084.pdf; Supplier: LCSC; ConvertToPcb: yes; FootprintName: MYC0402
footprint MYC0402
pins: 1, 2

## CL10A106KP8NNNC
designator C?, comment 10uF
容值:10uF;精度:±10%;额定电压:10V;材质(温度系数):X5R;; Manufacturer: SAMSUNG(三星); Symbol: 0603X106M100; Device: CL10A106KP8NNNC; AddInBom: yes; ModelId: ac125912035d415993ca9572d50418b1; ModelName: C0603_L1.6-W0.8-H0.8; ModelTransform: 62.992,31.496,0,0,0,0,0,0,0; Tolerance: ±10%; Voltage Rated: 10V; Temperature Coefficient: X5R; LCSC Part Name: 10uF ±10% 10V; SupplierPart: C19702; ManufacturerPart: CL10A106KP8NNNC; Supplier Footprint: 0603; JLCPCB Part Class: Basic Part; Datasheet: https://atta.szlcsc.com/upload/public/pdf/source/20160103/1457707703378.pdf; Supplier: LCSC; ConvertToPcb: yes; FootprintName: C0603; Value: 10uF
footprint C0603
pins: 1, 2

## CL10A225KO8NNNC
designator C?  value 2.2uF  Supplier Part: C23630  (hidden comment: CL10A225KO8NNNC)
容值:2.2uF;精度:±10%;额定电压:16V;材质(温度系数):X5R;; Manufacturer: SAMSUNG(三星); Symbol: CapAcitance; AddInBom: yes; ModelId: ac125912035d415993ca9572d50418b1; ModelName: C0603_L1.6-W0.8-H0.8; ModelTransform: 62.992,31.496,0,0,0,0,0,0,0; Tolerance: ±10%; Voltage Rated: 16V; Temperature Coefficient: X5R; Device: CL10A225KO8NNNC; LCSC Part Name: 2.2uF ±10% 16V; ManufacturerPart: CL10A225KO8NNNC; Supplier Footprint: 0603; JLCPCB Part Class: Basic Part; Datasheet: https://atta.szlcsc.com/upload/public/pdf/source/20160103/1457707709512.pdf; Supplier: LCSC; ConvertToPcb: yes; FootprintName: c0402-nsk
footprint c0402-nsk
pins: 1, 2

## CL10A226MQ8NRNC
designator C?, comment 22uF  Supplier Footprint: 0603
容值:22uF;精度:±20%;额定电压:6.3V;材质(温度系数):X5R;; Manufacturer: SAMSUNG(三星); Symbol: GRT188R61A226ME13D; Device: CL10A226MQ8NRNC; Add into BOM: yes; ModelId: ac125912035d415993ca9572d50418b1; ModelName: C0603_L1.6-W0.8-H0.8; ModelTransform: 62.992,31.496,0,0,0,0,0,0,0; Tolerance: ±20%; Voltage Rated: 6.3V; Temperature Coefficient: X5R; LCSC Part Name: 22uF ±20% 6.3V; SupplierPart: C59461; ManufacturerPart: CL10A226MQ8NRNC; JLCPCB Part Class: Basic Part; Datasheet: https://atta.szlcsc.com/upload/public/pdf/source/20160218/1457707763339.pdf; Supplier: LCSC; ConvertToPcb: yes; FootprintName: C0603; Value: 22uF
footprint C0603
pins: 1, 2

## CL10A475KO8NNNC
designator C?, comment 4.7uF
容值:4.7uF;精度:±10%;额定电压:16V;材质(温度系数):X5R;; Manufacturer: SAMSUNG(三星); Symbol: CapAcitance; Device: CL10A475KO8NNNC; AddInBom: yes; ModelId: ac125912035d415993ca9572d50418b1; ModelName: C0603_L1.6-W0.8-H0.8; ModelTransform: 62.992,31.496,0,0,0,0,0,0,0; Tolerance: ±10%; Voltage Rated: 16V; Temperature Coefficient: X5R; Value: 4.7uF; LCSC Part Name: 4.7uF ±10% 16V; SupplierPart: C19666; ManufacturerPart: CL10A475KO8NNNC; Supplier Footprint: 0603; JLCPCB Part Class: Basic Part; Datasheet: https://atta.szlcsc.com/upload/public/pdf/source/20160103/1457707703134.pdf; Supplier: LCSC; ConvertToPcb: yes; FootprintName: c0402-nsk
footprint c0402-nsk
pins: 1, 2

## CL10A475KO8NNNC_1
designator C?, comment value 100nF  (hidden comment: CL10A475KO8NNNC)
容值:4.7uF;精度:±10%;额定电压:16V;材质(温度系数):X5R;; Manufacturer: SAMSUNG(三星); Symbol: CapAcitance; AddInBom: yes; ModelId: ac125912035d415993ca9572d50418b1; ModelName: C0603_L1.6-W0.8-H0.8; ModelTransform: 62.992,31.496,0,0,0,0,0,0,0; Tolerance: ±10%; Voltage Rated: 16V; Temperature Coefficient: X5R; Device: CL10A475KO8NNNC; LCSC Part Name: 4.7uF ±10% 16V; ManufacturerPart: CL10A475KO8NNNC; Supplier Footprint: 0603; JLCPCB Part Class: Basic Part; Datasheet: https://atta.szlcsc.com/upload/public/pdf/source/20160103/1457707703134.pdf; Supplier: LCSC; ConvertToPcb: yes; FootprintName: c0402-nsk
footprint c0402-nsk
pins: 1, 2

## CL10C120JB8NNNC
designator C?  value 22pF  (hidden comment: CL10C120JB8NNNC)
容值:12pF;精度:±5%;额定电压:50V;材质(温度系数):C0G;; Manufacturer: SAMSUNG(三星); Symbol: CapAcitance; AddInBom: yes; ModelId: ac125912035d415993ca9572d50418b1; ModelName: C0603_L1.6-W0.8-H0.8; ModelTransform: 62.992,31.496,0,0,0,0,0,0,0; Tolerance: ±5%; Voltage Rated: 50V; Temperature Coefficient: C0G; Device: CL10C120JB8NNNC; LCSC Part Name: 12pF ±5% 50V; ManufacturerPart: CL10C120JB8NNNC; Supplier Footprint: 0603; JLCPCB Part Class: Basic Part; Datasheet: https://atta.szlcsc.com/upload/public/pdf/source/20160218/1457707763339.pdf; Supplier: LCSC; ConvertToPcb: yes; FootprintName: MYC0402
footprint MYC0402
pins: 1, 2

## CL31A106KBHNNNE
designator C?, comment 10uF
容值:10uF;精度:±10%;额定电压:50V;温度系数:X5R;; Manufacturer: SAMSUNG(三星); Symbol: CL31A106KBHNNNE; AddInBom: yes; ModelId: e4be705b945545a48e666415e3682bd8; ModelName: C1206_L3.2-W1.6-H1.3; ModelTransform: 125.984,62.992,0,0,0,0,0,0,0; Tolerance: ±10%; Voltage Rating: 50V; Temperature Coefficient: X5R; Device: CL31A106KBHNNNE; LCSC Part Name: 10uF ±10% 50V; SupplierPart: C13585; ManufacturerPart: CL31A106KBHNNNE; Supplier Footprint: 1206; JLCPCB Part Class: 基础库; Datasheet: https://item.szlcsc.com/datasheet/CL31A106KBHNNNE/14236.html; Supplier: LCSC; ConvertToPcb: yes; FootprintName: C1206; Value: 10uF
footprint C1206
pins: 1, 2

## CRCW040210K0FKED
designator R?, comment 10kΩ
电阻类型:厚膜电阻;阻值:10kΩ;精度:±1%;功率:63mW;温度系数:±100ppm/K;最大工作电压:50V;工作温度范围:-55℃~+155℃;; Manufacturer: VISHAY(威世); Device: CRCW040210K0FKED; AddInBom: yes; ModelId: 671aefced39d4c318694bba8bd8efd39; ModelName: R0402_L1.0-W0.5-H0.5; ModelTransform: 39.37,19.685,0,0,0,0,0,0.0005,0; Tolerance: ±1%; Power(Watts): 63mW; Overload Voltage (Max): 50V; Symbol: CRCW040210K0FKED; LCSC Part Name: 10kΩ ±1% 63mW; SupplierPart: C71617; ManufacturerPart: CRCW040210K0FKED; Supplier Footprint: 0402; JLCPCB Part Class: 扩展库; Datasheet: https://atta.szlcsc.com/upload/public/pdf/source/20180224/C71617_15194370300791364062.pdf; Supplier: LCSC; ConvertToPcb: yes; FootprintName: R0402; Type: 厚膜电阻; Value: 10kΩ; Temperature Coefficient: ±100ppm/K; Operating Temperature Range: -55℃~+155℃
footprint R0402
pins: 1, 2

## CRCW040210K0FKED_1
designator R?, comment 100kΩ
电阻类型:厚膜电阻;阻值:10kΩ;精度:±1%;功率:63mW;温度系数:±100ppm/K;最大工作电压:50V;工作温度范围:-55℃~+155℃;; Manufacturer: VISHAY(威世); Device: CRCW040210K0FKED; AddInBom: yes; ModelId: 671aefced39d4c318694bba8bd8efd39; ModelName: R0402_L1.0-W0.5-H0.5; ModelTransform: 39.37,19.685,0,0,0,0,0,0.0005,0; Tolerance: ±1%; Power(Watts): 63mW; Overload Voltage (Max): 50V; Value: 100kΩ; Symbol: CRCW040210K0FKED; LCSC Part Name: 10kΩ ±1% 63mW; ManufacturerPart: CRCW040210K0FKED; Supplier Footprint: 0402; JLCPCB Part Class: 扩展库; Datasheet: https://atta.szlcsc.com/upload/public/pdf/source/20180224/C71617_15194370300791364062.pdf; Supplier: LCSC; ConvertToPcb: yes; FootprintName: R0402; Type: 厚膜电阻; Temperature Coefficient: ±100ppm/K; Operating Temperature Range: -55℃~+155℃
footprint R0402
pins: 1, 2

## CRCW040210K0FKED_2
designator R?, comment 4.7kΩ
电阻类型:厚膜电阻;阻值:10kΩ;精度:±1%;功率:63mW;温度系数:±100ppm/K;最大工作电压:50V;工作温度范围:-55℃~+155℃;; Manufacturer: VISHAY(威世); Device: CRCW040210K0FKED; AddInBom: yes; ModelId: 671aefced39d4c318694bba8bd8efd39; ModelName: R0402_L1.0-W0.5-H0.5; ModelTransform: 39.37,19.685,0,0,0,0,0,0.0005,0; Tolerance: ±1%; Power(Watts): 63mW; Overload Voltage (Max): 50V; Value: 4.7kΩ; Symbol: CRCW040210K0FKED; LCSC Part Name: 10kΩ ±1% 63mW; ManufacturerPart: CRCW040210K0FKED; Supplier Footprint: 0402; JLCPCB Part Class: 扩展库; Datasheet: https://atta.szlcsc.com/upload/public/pdf/source/20180224/C71617_15194370300791364062.pdf; Supplier: LCSC; ConvertToPcb: yes; FootprintName: R0402; Type: 厚膜电阻; Temperature Coefficient: ±100ppm/K; Operating Temperature Range: -55℃~+155℃
footprint R0402
pins: 1, 2

## DC-005_2.0
designator DC?
Device: DC-005_2.0; ConvertToPcb: yes; SymbolName: DC电源接口; ModelId: f5f20b8a2308479b936ba3c2698865bb聨0819f05c4eef4c71ace90d822a990e87; ModelName: DC-IN-TH_DC-5520-1; ModelTransform: 372.05,551.18,582.68,90,0,0,137.8,0,-149.61; AddInBom: yes; Supplier Footprint: 插件; FootprintName: DC-2.0
footprint DC-2.0
pins: 2, 3, 4

## EMMC BGA153
designator U?
Manufacturer: Kingston(金士顿); ManufacturerPart: EMMC04G-M627-A01; Device: EMMC BGA153; Pin Type: IN; AddInBom: yes; Symbol: EMMC BGA153; Supplier: LCSC; SupplierPart: C577446; ConvertToPcb: yes; FootprintName: fbga-153_l13.0-w11.5-p0.50_klmag1jetd-b041
footprint fbga-153_l13.0-w11.5-p0.50_klmag1jetd-b041
pins: A3 DAT0, A4 DAT1, A5 DAT2, A6 VSS, B2 DAT3, B3 DAT4, B4 DAT5, B5 DAT6, B6 DAT7, C2 VDDI, C4 VSSQ, C6 VCCQ, E6 VCC, E7 VSS, F5 VCC, G3 RFU, G5 VSS, H5 DS, H10 VSS, J5 VSS, J10 VCC, K5 RST_n, K8 VSS, K9 VCC, M4 VCCQ, M5 CMD, M6 CLK, N2 VSSQ, N4 VCCQ, N5 VSSQ, P3 VCCQ, P4 VSSQ, P5 VCCQ, P6 VSSQ

## ERJ2GE0R00X
designator R?, comment NC  (no BOM)
电阻类型:-;阻值:0Ω;功率:100mW;温度系数:-100ppm/℃~+600ppm/℃;最大工作电压:-;工作温度范围:-55℃~+155℃;; Manufacturer: PANASONIC(松下); Device: ERJ2GE0R00X; Convert to PCB: no; ModelId: 671aefced39d4c318694bba8bd8efd39; ModelName: R0402_L1.0-W0.5-H0.5; ModelTransform: 39.37,19.685,0,0,0,0,0,0.0005,0; Power(Watts): 100mW; Supplier Part: NC; Value: NC; Add into BOM: no; Symbol: ERJ2GE0R00X; LCSC Part Name: 0Ω 100mW; ManufacturerPart: ERJ2GE0R00X; Supplier Footprint: 0402; JLCPCB Part Class: 扩展库; Datasheet: https://atta.szlcsc.com/upload/public/pdf/source/20181106/C242160_CA6E41971DE5A1DCD79442F3CF334CD6.pdf; Supplier: LCSC; FootprintName: R0402; Type: -; Temperature Coefficient: -100ppm/℃~+600ppm/℃; Overload Voltage (Max): -; Operating Temperature Range: -55℃~+155℃
footprint R0402
pins: 1, 2

## ERJ2GE0R00X_1
designator R?, comment 0Ω
电阻类型:-;阻值:0Ω;功率:100mW;温度系数:-100ppm/℃~+600ppm/℃;最大工作电压:-;工作温度范围:-55℃~+155℃;; Manufacturer: PANASONIC(松下); Device: ERJ2GE0R00X; AddInBom: yes; ModelId: 671aefced39d4c318694bba8bd8efd39; ModelName: R0402_L1.0-W0.5-H0.5; ModelTransform: 39.37,19.685,0,0,0,0,0,0.0005,0; Power(Watts): 100mW; Symbol: ERJ2GE0R00X; LCSC Part Name: 0Ω 100mW; SupplierPart: C242160; ManufacturerPart: ERJ2GE0R00X; Supplier Footprint: 0402; JLCPCB Part Class: 扩展库; Datasheet: https://atta.szlcsc.com/upload/public/pdf/source/20181106/C242160_CA6E41971DE5A1DCD79442F3CF334CD6.pdf; Supplier: LCSC; ConvertToPcb: yes; FootprintName: R0402; Type: -; Value: 0Ω; Temperature Coefficient: -100ppm/℃~+600ppm/℃; Overload Voltage (Max): -; Operating Temperature Range: -55℃~+155℃
footprint R0402
pins: 1, 2

## ESD5311X_C2844730
designator U?, comment ESD5311X
极性:双向;反向截止电压(Vrwm):5V;最大钳位电压:21V;峰值脉冲电流(Ipp):4A;峰值脉冲功率(Ppp):80W;击穿电压:7.5V;; Manufacturer: TECH PUBLIC(台舟); Symbol: ESD5311X_C2844730; AddInBom: yes; ModelId: 2bdbcca3b35b49c5a8ae725a08658930; ModelName: DFN1006-2L-BI; ModelTransform: 40.1574,24.4094,0,0,0,0,0,0,0; polarity: 双向; Reverse Stand-Off Voltage (Vrwm): 5V; Maximum Clamping Voltage: 21V; Peak Pulse Current (Ipp): 4A; Peak Pulse Power Dissipation (Ppp): 80W; Breakdown Voltage: 7.5V; Reverse Leakage Current (Ir): 80nA; Number of Lines: 单路; level of protection: IEC 61000-4-2; Device: ESD5311X_C2844730; LCSC Part Name: ESD5311X; SupplierPart: C2844730; ManufacturerPart: ESD5311X; Supplier Footprint: DFN1006-2; JLCPCB Part Class: 扩展库; Datasheet: https://atta.szlcsc.com/upload/public/pdf/source/20210709/C2844730_C8067B3CCE558E7D499244211FB5DC21.pdf; Supplier: LCSC; ConvertToPcb: yes; FootprintName: DFN1006-2L-BI; Operating Temperature: -55℃~+125℃; Type: ESD
footprint DFN1006-2L-BI
pins: 1, 2

## ESD5341N_C20612964
designator U?, comment ESD5341N  (value not drawn)
Manufacturer: KUU; Symbol: ESD5341N_C20612964; AddInBom: yes; ModelId: 2bdbcca3b35b49c5a8ae725a08658930; ModelName: DFN1006-2L-BI; ModelTransform: 40.1574,24.4094,0,0,0,0,0,0,0; Device: ESD5341N_C20612964; LCSC Part Name: ESD静电保护管; SupplierPart: C20612964; ManufacturerPart: ESD5341N; Supplier Footprint: DFN1006-2L; JLCPCB Part Class: 扩展库; Datasheet: https://atta.szlcsc.com/upload/public/pdf/source/20240126/9EE8C033ACD76A81C21292FAA1DFE4C1.pdf; Supplier: LCSC; ConvertToPcb: yes; FootprintName: DFN1006-2L-BI
footprint DFN1006-2L-BI
pins: 1, 2

## ESD5451N_C2936977
designator U?, comment ESD5451N
极性:双向;反向截止电压(Vrwm):5V;钳位电压:13V;峰值脉冲电流(Ipp):5.5A;峰值脉冲功率(Ppp):90W;击穿电压:8.4V;; Manufacturer: TECH PUBLIC(台舟); Symbol: ESD5451N_C2936977; AddInBom: yes; ModelId: e1a2843302f940e8ac07b7d637792d48; ModelName: X1-DFN1006-2_L1.0-W0.6-P0.65-BI; ModelTransform: 39.37,23.622,0,0,0,0,0,0,0; Polarity: 双向; Reverse Stand-Off Voltage (Vrwm): 5V; Clamping Voltage: 13V; Peak Pulse Current (Ipp): 5.5A; Peak Pulse Power Dissipation (Ppp): 90W; Voltage - Breakdown: 8.4V; Reverse Leakage Current (Ir): 80nA; Number of Channels: 单路; level of protection: IEC 61000-4-2; Device: ESD5451N_C2936977; LCSC Part Name: ESD二极管; SupplierPart: C2936977; ManufacturerPart: ESD5451N; Supplier Footprint: DFN1006-2; JLCPCB Part Class: 扩展库; Datasheet: https://item.szlcsc.com/datasheet/ESD5451N/3290324.html; Supplier: LCSC; ConvertToPcb: yes; FootprintName: X1-DFN1006-2_L1.0-W0.6-P0.65-BI; Operating Temperature: -55℃~+125℃; Type: ESD
footprint X1-DFN1006-2_L1.0-W0.6-P0.65-BI
pins: 1, 2